# EAGLE library part UP1FLEXC22 (library ads4)
Altera UP1 FLEX10 Port C 22-pin Connector
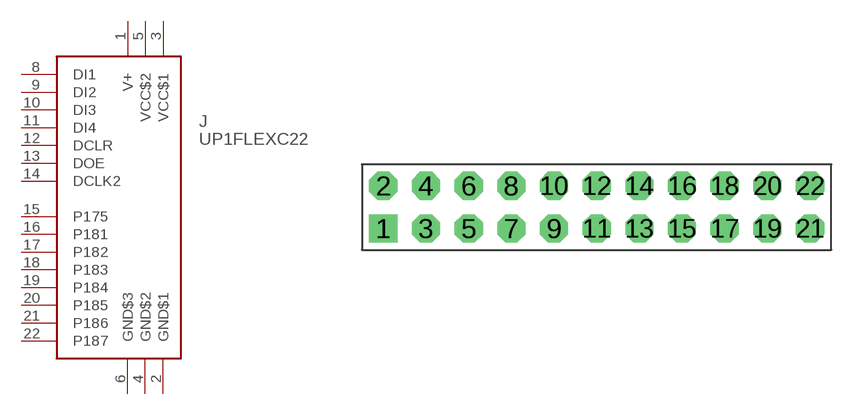
[diagram p3: symbol with the pads of CON22P2R; footprint CON22P2R]

Designator prefix J

## UP1FLEXC22P  [CON22P2R]
1  V+  pwr
2  GND$1  pwr
3  VCC$1  pwr
4  GND$2  pwr
5  VCC$2  pwr
6  GND$3  pwr
8  DI1  in
9  DI2  in
10  DI3  in
11  DI4  in
12  DCLR  in
13  DOE  in
14  DCLK2  in
15  P175  in
16  P181  in
17  P182  in
18  P183  in
19  P184  in
20  P185  in
21  P186  in
22  P187  in

## Footprint CON22P2R (pad centres in mm)
22-Pin Dual Row 0.1" Connector
drill 1.016 pad 1.676 square: 1 -11.43,-1.27
drill 1.016 pad 1.676 octagon: 2 -11.43,1.27; 3 -8.89,-1.27; 4 -8.89,1.27; 5 -6.35,-1.27; 6 -6.35,1.27; 7 -3.81,-1.27; 8 -3.81,1.27; 9 -1.27,-1.27; 10 -1.27,1.27; 11 1.27,-1.27; 12 1.27,1.27; 13 3.81,-1.27; 14 3.81,1.27; 15 6.35,-1.27; 16 6.35,1.27; 17 8.89,-1.27; 18 8.89,1.27; 19 11.43,-1.27; 20 11.43,1.27; 21 13.97,-1.27; 22 13.97,1.27